# EAGLE library part TMUX1309QBQBRQ1 (library Programming_interface_lib)
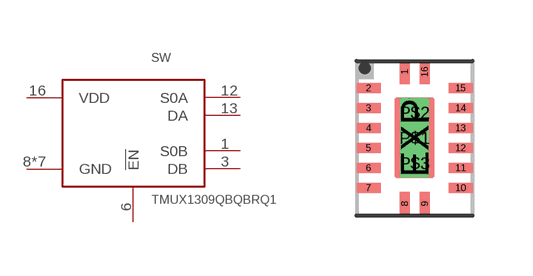
[diagram p9: symbol with the pads of QFN16-4X4; footprint QFN16-4X4]

Designator prefix SW

## TMUX1309QBQBRQ1  [QFN16-4X4]
1  S0B
3  DB
6  !EN
8  GND  pwr
9  GND  pwr
10  GND  pwr
12  S0A
13  DA
16  VDD  pwr
EXP  GND  pwr
P$1  GND  pwr
P$2  GND  pwr
P$3  GND  pwr

## Footprint QFN16-4X4 (pad centres in mm)
16-Lead Plastic Quad Flat, No Lead Package (ML) - 2.6x3.6x0.8mm Body [QFN] Source: https://www.ti.com/lit/ds/symlink/tmux1309-q1.pdf?ts=1615303587855&ref_url=https%253A%252F%252Fwww.ti.com%252Fstore%252Fti%252Fen%252Fp%252Fproduct%252F%253Fp%253DTMUX1309QBQBRQ1
smd 0.25 x 0.6: 1 -0.25,1.65; 8 -0.25,-1.65; 9 0.25,-1.65; 16 0.25,1.65
smd 0.6 x 0.25: 2 -1.15,1.25; 3 -1.15,0.75; 4 -1.15,0.25; 5 -1.15,-0.25; 6 -1.15,-0.75; 7 -1.15,-1.25; 10 1.15,-1.25; 11 1.15,-0.75; 12 1.15,-0.25; 13 1.15,0.25; 14 1.15,0.75; 15 1.15,1.25
smd 1 x 2: EXP 0,0
drill 0.2 pad 0.4 square: P$1 0,0; P$2 0,0.635; P$3 0,-0.635